# EAGLE library part XEM7310 (library tcspc_lib)
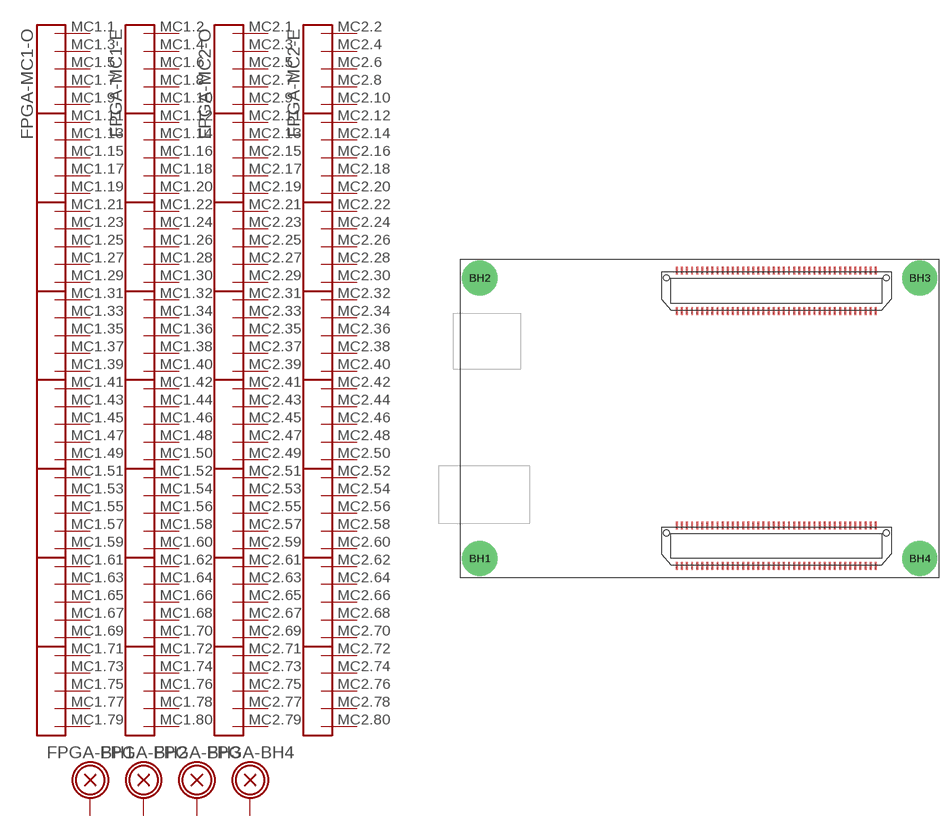
[diagram p10: symbol with the pads of XEM7310; footprint XEM7310]

Designator prefix FPGA; gates -MC1-O=CONN_BUS_40P -MC1-E=CONN_BUS_40P -MC2-O=CONN_BUS_40P -MC2-E=CONN_BUS_40P -BH1=BOLTHOLE_CONDUCTIVE -BH2=BOLTHOLE_CONDUCTIVE -BH3=BOLTHOLE_CONDUCTIVE -BH4=BOLTHOLE_CONDUCTIVE

## XEM7310  [XEM7310]
BH1  -BH1:P
BH2  -BH2:P
BH3  -BH3:P
BH4  -BH4:P
MC1.1  -MC1-O:P1
MC1.2  -MC1-E:P1
MC1.3  -MC1-O:P2
MC1.4  -MC1-E:P2
MC1.5  -MC1-O:P3
MC1.6  -MC1-E:P3
MC1.7  -MC1-O:P4
MC1.8  -MC1-E:P4
MC1.9  -MC1-O:P5
MC1.10  -MC1-E:P5
MC1.11  -MC1-O:P6
MC1.12  -MC1-E:P6
MC1.13  -MC1-O:P7
MC1.14  -MC1-E:P7
MC1.15  -MC1-O:P8
MC1.16  -MC1-E:P8
MC1.17  -MC1-O:P9
MC1.18  -MC1-E:P9
MC1.19  -MC1-O:P10
MC1.20  -MC1-E:P10
MC1.21  -MC1-O:P11
MC1.22  -MC1-E:P11
MC1.23  -MC1-O:P12
MC1.24  -MC1-E:P12
MC1.25  -MC1-O:P13
MC1.26  -MC1-E:P13
MC1.27  -MC1-O:P14
MC1.28  -MC1-E:P14
MC1.29  -MC1-O:P15
MC1.30  -MC1-E:P15
MC1.31  -MC1-O:P16
MC1.32  -MC1-E:P16
MC1.33  -MC1-O:P17
MC1.34  -MC1-E:P17
MC1.35  -MC1-O:P18
MC1.36  -MC1-E:P18
MC1.37  -MC1-O:P19
MC1.38  -MC1-E:P19
MC1.39  -MC1-O:P20
MC1.40  -MC1-E:P20
MC1.41  -MC1-O:P21
MC1.42  -MC1-E:P21
MC1.43  -MC1-O:P22
MC1.44  -MC1-E:P22
MC1.45  -MC1-O:P23
MC1.46  -MC1-E:P23
MC1.47  -MC1-O:P24
MC1.48  -MC1-E:P24
MC1.49  -MC1-O:P25
MC1.50  -MC1-E:P25
MC1.51  -MC1-O:P26
MC1.52  -MC1-E:P26
MC1.53  -MC1-O:P27
MC1.54  -MC1-E:P27
MC1.55  -MC1-O:P28
MC1.56  -MC1-E:P28
MC1.57  -MC1-O:P29
MC1.58  -MC1-E:P29
MC1.59  -MC1-O:P30
MC1.60  -MC1-E:P30
MC1.61  -MC1-O:P31
MC1.62  -MC1-E:P31
MC1.63  -MC1-O:P32
MC1.64  -MC1-E:P32
MC1.65  -MC1-O:P33
MC1.66  -MC1-E:P33
MC1.67  -MC1-O:P34
MC1.68  -MC1-E:P34
MC1.69  -MC1-O:P35
MC1.70  -MC1-E:P35
MC1.71  -MC1-O:P36
MC1.72  -MC1-E:P36
MC1.73  -MC1-O:P37
MC1.74  -MC1-E:P37
MC1.75  -MC1-O:P38
MC1.76  -MC1-E:P38
MC1.77  -MC1-O:P39
MC1.78  -MC1-E:P39
MC1.79  -MC1-O:P40
MC1.80  -MC1-E:P40
MC2.1  -MC2-O:P1
MC2.2  -MC2-E:P1
MC2.3  -MC2-O:P2
MC2.4  -MC2-E:P2
MC2.5  -MC2-O:P3
MC2.6  -MC2-E:P3
MC2.7  -MC2-O:P4
MC2.8  -MC2-E:P4
MC2.9  -MC2-O:P5
MC2.10  -MC2-E:P5
MC2.11  -MC2-O:P6
MC2.12  -MC2-E:P6
MC2.13  -MC2-O:P7
MC2.14  -MC2-E:P7
MC2.15  -MC2-O:P8
MC2.16  -MC2-E:P8
MC2.17  -MC2-O:P9
MC2.18  -MC2-E:P9
MC2.19  -MC2-O:P10
MC2.20  -MC2-E:P10
MC2.21  -MC2-O:P11
MC2.22  -MC2-E:P11
MC2.23  -MC2-O:P12
MC2.24  -MC2-E:P12
MC2.25  -MC2-O:P13
MC2.26  -MC2-E:P13
MC2.27  -MC2-O:P14
MC2.28  -MC2-E:P14
MC2.29  -MC2-O:P15
MC2.30  -MC2-E:P15
MC2.31  -MC2-O:P16
MC2.32  -MC2-E:P16
MC2.33  -MC2-O:P17
MC2.34  -MC2-E:P17
MC2.35  -MC2-O:P18
MC2.36  -MC2-E:P18
MC2.37  -MC2-O:P19
MC2.38  -MC2-E:P19
MC2.39  -MC2-O:P20
MC2.40  -MC2-E:P20
MC2.41  -MC2-O:P21
MC2.42  -MC2-E:P21
MC2.43  -MC2-O:P22
MC2.44  -MC2-E:P22
MC2.45  -MC2-O:P23
MC2.46  -MC2-E:P23
MC2.47  -MC2-O:P24
MC2.48  -MC2-E:P24
MC2.49  -MC2-O:P25
MC2.50  -MC2-E:P25
MC2.51  -MC2-O:P26
MC2.52  -MC2-E:P26
MC2.53  -MC2-O:P27
MC2.54  -MC2-E:P27
MC2.55  -MC2-O:P28
MC2.56  -MC2-E:P28
MC2.57  -MC2-O:P29
MC2.58  -MC2-E:P29
MC2.59  -MC2-O:P30
MC2.60  -MC2-E:P30
MC2.61  -MC2-O:P31
MC2.62  -MC2-E:P31
MC2.63  -MC2-O:P32
MC2.64  -MC2-E:P32
MC2.65  -MC2-O:P33
MC2.66  -MC2-E:P33
MC2.67  -MC2-O:P34
MC2.68  -MC2-E:P34
MC2.69  -MC2-O:P35
MC2.70  -MC2-E:P35
MC2.71  -MC2-O:P36
MC2.72  -MC2-E:P36
MC2.73  -MC2-O:P37
MC2.74  -MC2-E:P37
MC2.75  -MC2-O:P38
MC2.76  -MC2-E:P38
MC2.77  -MC2-O:P39
MC2.78  -MC2-E:P39
MC2.79  -MC2-O:P40
MC2.80  -MC2-E:P40

## Footprint XEM7310 (pad centres in mm)
drill 2.7 pad 5.5: BH1 3,3; BH2 3,47; BH3 72,47; BH4 72,3
smd 0.305 x 1.27: MC1.1 33.898,48.175; MC1.2 33.898,41.825; MC1.3 34.698,48.175; MC1.4 34.698,41.825; MC1.5 35.498,48.175; MC1.6 35.498,41.825; MC1.7 36.298,48.175; MC1.8 36.298,41.825; MC1.9 37.098,48.175; MC1.10 37.098,41.825; MC1.11 37.899,48.175; MC1.12 37.899,41.825; MC1.13 38.699,48.175; MC1.14 38.699,41.825; MC1.15 39.499,48.175; MC1.16 39.499,41.825; MC1.17 40.299,48.175; MC1.18 40.299,41.825; MC1.19 41.099,48.175; MC1.20 41.099,41.825; MC1.21 41.899,48.175; MC1.22 41.899,41.825; MC1.23 42.699,48.175; MC1.24 42.699,41.825; MC1.25 43.499,48.175; MC1.26 43.499,41.825; MC1.27 44.299,48.175; MC1.28 44.299,41.825; MC1.29 45.099,48.175; MC1.30 45.099,41.825; MC1.31 45.9,48.175; MC1.32 45.9,41.825; MC1.33 46.7,48.175; MC1.34 46.7,41.825; MC1.35 47.5,48.175; MC1.36 47.5,41.825; MC1.37 48.3,48.175; MC1.38 48.3,41.825; MC1.39 49.1,48.175; MC1.40 49.1,41.825; MC1.41 49.9,48.175; MC1.42 49.9,41.825; MC1.43 50.7,48.175; MC1.44 50.7,41.825; MC1.45 51.5,48.175; MC1.46 51.5,41.825; MC1.47 52.3,48.175; MC1.48 52.3,41.825; MC1.49 53.1,48.175; MC1.50 53.1,41.825; MC1.51 53.901,48.175; MC1.52 53.901,41.825; MC1.53 54.701,48.175; MC1.54 54.701,41.825; MC1.55 55.501,48.175; MC1.56 55.501,41.825; MC1.57 56.301,48.175; MC1.58 56.301,41.825; MC1.59 57.101,48.175; MC1.60 57.101,41.825; MC1.61 57.901,48.175; MC1.62 57.901,41.825; MC1.63 58.701,48.175; MC1.64 58.701,41.825; MC1.65 59.501,48.175; MC1.66 59.501,41.825; MC1.67 60.301,48.175; MC1.68 60.301,41.825; MC1.69 61.101,48.175; MC1.70 61.101,41.825; MC1.71 61.902,48.175; MC1.72 61.902,41.825; MC1.73 62.702,48.175; MC1.74 62.702,41.825; MC1.75 63.502,48.175; MC1.76 63.502,41.825; MC1.77 64.302,48.175; MC1.78 64.302,41.825; MC1.79 65.102,48.175; MC1.80 65.102,41.825; MC2.1 33.898,8.175; MC2.2 33.898,1.825; MC2.3 34.698,8.175; MC2.4 34.698,1.825; MC2.5 35.498,8.175; MC2.6 35.498,1.825; MC2.7 36.298,8.175; MC2.8 36.298,1.825; MC2.9 37.098,8.175; MC2.10 37.098,1.825; MC2.11 37.899,8.175; MC2.12 37.899,1.825; MC2.13 38.699,8.175; MC2.14 38.699,1.825; MC2.15 39.499,8.175; MC2.16 39.499,1.825; MC2.17 40.299,8.175; MC2.18 40.299,1.825; MC2.19 41.099,8.175; MC2.20 41.099,1.825; MC2.21 41.899,8.175; MC2.22 41.899,1.825; MC2.23 42.699,8.175; MC2.24 42.699,1.825; MC2.25 43.499,8.175; MC2.26 43.499,1.825; MC2.27 44.299,8.175; MC2.28 44.299,1.825; MC2.29 45.099,8.175; MC2.30 45.099,1.825; MC2.31 45.9,8.175; MC2.32 45.9,1.825; MC2.33 46.7,8.175; MC2.34 46.7,1.825; MC2.35 47.5,8.175; MC2.36 47.5,1.825; MC2.37 48.3,8.175; MC2.38 48.3,1.825; MC2.39 49.1,8.175; MC2.40 49.1,1.825; MC2.41 49.9,8.175; MC2.42 49.9,1.825; MC2.43 50.7,8.175; MC2.44 50.7,1.825; MC2.45 51.5,8.175; MC2.46 51.5,1.825; MC2.47 52.3,8.175; MC2.48 52.3,1.825; MC2.49 53.1,8.175; MC2.50 53.1,1.825; MC2.51 53.901,8.175; MC2.52 53.901,1.825; MC2.53 54.701,8.175; MC2.54 54.701,1.825; MC2.55 55.501,8.175; MC2.56 55.501,1.825; MC2.57 56.301,8.175; MC2.58 56.301,1.825; MC2.59 57.101,8.175; MC2.60 57.101,1.825; MC2.61 57.901,8.175; MC2.62 57.901,1.825; MC2.63 58.701,8.175; MC2.64 58.701,1.825; MC2.65 59.501,8.175; MC2.66 59.501,1.825; MC2.67 60.301,8.175; MC2.68 60.301,1.825; MC2.69 61.101,8.175; MC2.70 61.101,1.825; MC2.71 61.902,8.175; MC2.72 61.902,1.825; MC2.73 62.702,8.175; MC2.74 62.702,1.825; MC2.75 63.502,8.175; MC2.76 63.502,1.825; MC2.77 64.302,8.175; MC2.78 64.302,1.825; MC2.79 65.102,8.175; MC2.80 65.102,1.825
hole 0.889 at 32.26,47.032
hole 0.889 at 66.74,47.032
hole 0.889 at 32.26,7.032
hole 0.889 at 66.74,7.032